# Altium footprint library STM32G4_DRV8301_hardware.PcbLib: 61 footprints (part 1 of 4)
Each footprint in its own frame and in the unit in brackets; x right, y up, seen from the top. Pads: shape width x height; smd on the part's side, far side on the other; paste and mask are expansions set on the pad; w line width, h text height; cw(c..) or ccw(c..) is an arc to the next point about the centre after c.
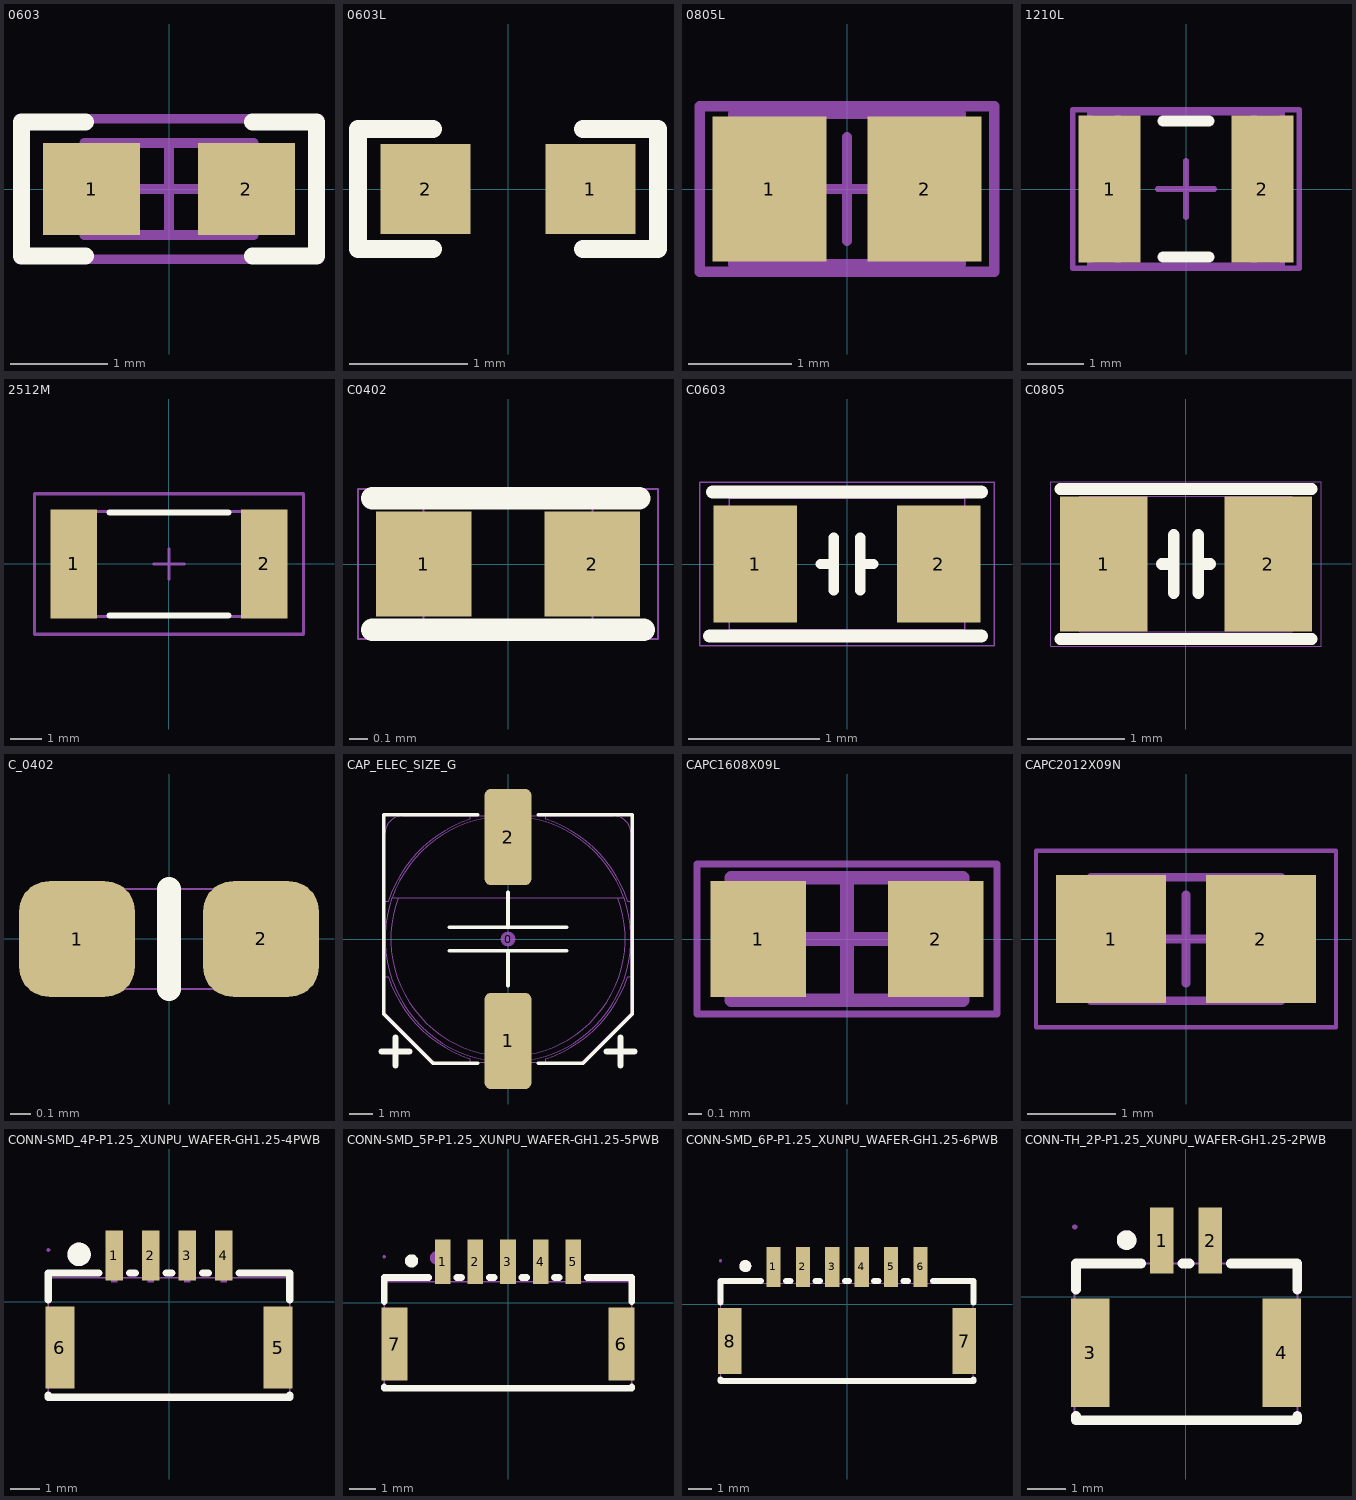
[diagram p0: the footprints below, top view; thin cyan lines are the x and y axes]

## 0603 [mm]
pads (2):
  rect 1x0.95 smd: 1(-0.8,0) 2(0.8,0)
Top Overlay:
  lines w0.178: -0.864,-0.691 -1.524,-0.691 -1.524,0.693 -0.864,0.693 ; 0.864,-0.691 1.524,-0.691 1.524,0.693 0.864,0.693
Mechanical 5:
  lines w0.1: -1.55,-0.725 -1.55,0.725 1.55,0.725 1.55,-0.725 -1.55,-0.725
  text ".Designator" at -1.397,-0.381 h1.5
Mechanical 13:
  lines w0.1: -0.55,-0.475 -0.55,0.475 ; 0.55,-0.475 0.55,0.475 ; -0.875,-0.475 0.875,-0.475 0.875,0.475 -0.875,0.475 -0.875,-0.475
Mechanical 15:
  lines w0.1: -0.475,0 0.475,0 ; 0,-0.475 0,0.475 ; -1.55,-0.725 1.55,-0.725 1.55,0.725 -1.55,0.725 -1.55,-0.725
3D body: height 0.85, standoff 0, extent -0.874,-0.474 -0.551,0.474
3D body: height 0.85, standoff 0, extent -0.549,-0.474 0.549,0.474
3D body: height 0.85, standoff 0, extent 0.551,-0.474 0.874,0.474

## 0603L [mil]
pads (2):
  rect 30x30 smd: 1(27.5,0) 2(-27.5,0)
Top Overlay:
  lines w6: -25,-20 -50,-20 -50,20 -25,20 ; 25,-20 50,-20 50,20 25,20

## 0805L [mm]
pads (2):
  rect 1.1x1.4 smd: 1(-0.75,0) 2(0.75,0)
Mechanical 5:
  lines w0.1: -1.425,-0.8 1.425,-0.8 1.425,0.8 -1.425,0.8 -1.425,-0.8
  text ".Designator" at -1.2,-0.325 h1.5
Mechanical 13:
  lines w0.1: -0.65,-0.725 -0.65,0.725 ; 0.65,-0.725 0.65,0.725 ; -1.1,-0.725 1.1,-0.725 1.1,0.725 -1.1,0.725 -1.1,-0.725
Mechanical 15:
  lines w0.1: -0.5,0 0.5,0 ; 0,-0.5 0,0.5 ; -1.425,-0.8 -1.425,0.8 1.425,0.8 1.425,-0.8 -1.425,-0.8
3D body: height 1.1, standoff 0, extent -1.099,-0.724 -0.651,0.724
3D body: height 1.1, standoff 0, extent -0.649,-0.724 0.649,0.724
3D body: height 1.1, standoff 0, extent 0.651,-0.724 1.099,0.724

## 1210L [mm]
pads (2):
  rect 1.1x2.6 smd: 1(-1.35,0) 2(1.35,0)
Top Overlay:
  lines w0.2: -0.4,-1.2 0.4,-1.2 ; -0.4,1.2 0.4,1.2
Mechanical 5:
  lines w0.1: -1.7,-1.35 -1.7,1.35 1.7,1.35 1.7,-1.35 -1.7,-1.35
  text ".Designator" at -1.4,-0.375 h1.5
Mechanical 13:
  lines w0.1: -1.2,-1.35 -1.2,1.35 ; 1.2,-1.35 1.2,1.35 ; -1.7,-1.35 -1.7,1.35 1.7,1.35 1.7,-1.35 -1.7,-1.35
Mechanical 15:
  lines w0.1: -0.5,0 0.5,0 ; 0,-0.5 0,0.5 ; -2,-1.4 2,-1.4 2,1.4 -2,1.4 -2,-1.4
3D body: height 1.35, standoff 0, extent -1.699,-1.349 -1.201,1.349
3D body: height 1.35, standoff 0, extent -1.199,-1.349 1.199,1.349
3D body: height 1.35, standoff 0, extent 1.201,-1.349 1.699,1.349

## 2512M [mm]
pads (2):
  rect 1.5x3.5 smd: 1(-3.05,0) 2(3.05,0)
Top Overlay:
  lines w0.2: -1.9,-1.65 1.9,-1.65 ; -1.9,1.65 1.9,1.65
Mechanical 5:
  lines w0.1: -3.225,-1.675 3.225,-1.675 3.225,1.675 -3.225,1.675 -3.225,-1.675
  text ".Designator" at -1.85,-0.5 h1.5
Mechanical 13:
  lines w0.1: -2.463,-1.675 -2.463,1.675 ; 2.463,-1.675 2.463,1.675 ; -3.225,-1.675 3.225,-1.675 3.225,1.675 -3.225,1.675 -3.225,-1.675
Mechanical 15:
  lines w0.1: -0.5,0 0.5,0 ; 0,-0.5 0,0.5 ; -4.3,-2.25 4.3,-2.25 4.3,2.25 -4.3,2.25 -4.3,-2.25
3D body: height 0.71, standoff 0, extent -3.224,-1.674 -2.464,1.674
3D body: height 0.71, standoff 0, extent -2.462,-1.674 2.462,1.674
3D body: height 0.71, standoff 0, extent 2.464,-1.674 3.224,1.674

## C0402 [mm]
pads (2):
  rect 0.51x0.56 smd mask+0.05: 1(-0.45,0) 2(0.45,0)
Top Overlay:
  lines w0.12: -0.725,-0.35 0.725,-0.35 ; -0.725,0.35 0.7,0.35
Mechanical 14:
  lines w0.01: -0.45,-0.3 -0.45,0.3 0.45,0.3 0.45,-0.3 -0.45,-0.3
  text "'.Designator'" at -2,-0.5 h1.5
Mechanical 16:
  lines w0.01: -0.8,-0.4 0.8,-0.4 0.8,0.4 -0.8,0.4 -0.8,-0.4
3D body: height 0.4, standoff 0, extent -0.455,-0.305 0.455,0.305
3D body "C0402.STEP": height 0.36, standoff 0, extent -0.5,-0.265 0.5,0.265

## C0603 [mm]
pads (2):
  rect 0.64x0.89 smd mask+0.05: 1(-0.7,0) 2(0.7,0)
Top Overlay:
  lines w0.08: -0.2,0 -0.1,0 ; -0.1,-0.2 -0.1,0.2 ; 0.1,-0.2 0.1,0.2 ; 0.1,0 0.2,0
  lines w0.1: -1.05,-0.55 1.025,-0.55 ; -1.025,0.55 1.025,0.55
Mechanical 14:
  lines w0.01: -0.9,-0.5 0.9,-0.5 0.9,0.5 -0.9,0.5 -0.9,-0.5
  text "'.Designator'" at -2,-0.5 h1.5
Mechanical 16:
  lines w0.01: -1.125,-0.625 -1.125,0.625 1.125,0.625 1.125,-0.625 -1.125,-0.625
3D body: height 1.4, standoff 0, extent -0.899,-0.499 0.899,0.499
3D body "C0603.STEP": height 0.5, standoff 0, extent -0.8,-0.4 0.8,0.4

## C0805 [mm]
pads (2):
  rect 0.9x1.4 smd mask+0.05: 1(-0.85,0) 2(0.85,0)
Top Overlay:
  lines w0.12: -1.3,-0.775 1.3,-0.775 ; -1.3,0.775 1.3,0.775 ; -0.25,0 -0.15,0 ; -0.125,-0.3 -0.125,0.3 ; 0.125,-0.3 0.125,0.3 ; 0.15,0 0.25,0
Mechanical 14:
  lines w0.01: -1.1,-0.7 -1.1,0.7 1.1,0.7 1.1,-0.7 -1.1,-0.7
  text "'.Designator'" at -2,-0.5 h1.5
Mechanical 16:
  lines w0.01: -1.4,-0.85 1.4,-0.85 1.4,0.85 -1.4,0.85 -1.4,-0.85
3D body: height 1.35, standoff 0, extent -1.105,-0.705 1.105,0.705
3D body "C0805_2012D.STEP": height 1.25, standoff 0, extent -1,-0.625 1,0.625

## C_0402 [mm]
pads (2):
  rrect52% 0.58x0.58 smd mask+0.05: 1(-0.46,0) 2(0.46,0)
Top Overlay:
  lines w0.12: 0,-0.25 0,0.25
Mechanical 14:
  lines w0.01: -0.5,-0.25 -0.5,0.25 0.5,0.25 0.5,-0.25 -0.5,-0.25
  text "'.Designator'" at 1.975,-0.125 h1.5
  text "1" at -0.45,-0.225 h1.5
  text "2" at 0.175,-0.225 h1.5
3D body "CAPC1005X55.STEP": height 0.55, standoff 0, extent -0.5,-0.25 0.5,0.25

## CAP_ELEC_SIZE_G [mm]
pads (3):
  round 0.635 on Mech15: 0(0,0)
  rrect25% 2x4.1 smd: 1(0,-4.35) 2(0,4.35)
Top Overlay:
  lines w0.152: -2.5,-0.5 2.5,-0.5 ; -2.5,0.5 2.5,0.5 ; -1.3,-5.3 -3.2,-5.3 -5.3,-3.2 -5.3,5.3 -1.3,5.3 ; 0,-2 0,-0.5 ; 0,0.5 0,2 ; 1.3,-5.3 3.2,-5.3 5.3,-3.2 5.3,5.3 1.3,5.3
  lines w0.254: -5.4,-4.8 -4.2,-4.8 ; -4.8,-5.4 -4.8,-4.2 ; 4.2,-4.8 5.4,-4.8 ; 4.8,-5.4 4.8,-4.2
Mechanical 13:
  lines w0.05: -5.25,-1.601 -5.105,-1.601 ccw(c0,0) -1.601,-5.105 -1.601,-5.25 ; -5.25,1.601 -5.105,1.601 cw(c0,0) -1.601,5.105 -1.601,5.25 ; -4.948,1.75 cw(c0,0) 4.948,1.75 ; -4.684,1.75 ccw(c0,0) 4.684,1.75 ; -0.45,-5.25 -0.45,-6 0.45,-6 0.45,-5.25 ; -0.45,5.25 -0.45,6 0.45,6 0.45,5.25 ; 1.601,-5.25 1.601,-5.105 ccw(c0,0) 5.105,-1.601 5.25,-1.601 ; 1.601,5.25 1.601,5.105 cw(c0,0) 5.105,1.601 5.25,1.601 ; -5.25,-3.15 -5.25,4.5 cw(c-4.5,4.5) -4.5,5.25 4.5,5.25 cw(c4.5,4.5) 5.25,4.5 5.25,-3.15 3.15,-5.25 -3.15,-5.25 -5.25,-3.15 ; -4.95,1.75 ccw(c0,0) 4.95,1.75 -4.95,1.75
3D body "CAP Alum Elec Size G.STEP": height 10.5, standoff 0, extent -5.25,-6 5.25,6

## CAPC1608X09L [mm]
pads (2):
  rect 0.7x0.85 smd: 1(-0.65,0) 2(0.65,0)
Mechanical 13:
  lines w0.1: -0.85,-0.45 -0.85,0.45 0.85,0.45 0.85,-0.45 -0.85,-0.45
Mechanical 15:
  lines w0.05: -1.1,-0.55 -1.1,0.55 1.1,0.55 1.1,-0.55 -1.1,-0.55
  lines w0.1: -0.45,0 0.45,0 ; 0,-0.45 0,0.45
3D body: height 0.9, standoff 0, extent -0.55,-0.45 0.55,0.45
3D body: height 0.9, standoff 0, extent -0.85,-0.45 -0.55,0.45
3D body: height 0.9, standoff 0, extent 0.55,-0.45 0.85,0.45

## CAPC2012X09N [mm]
pads (2):
  rect 1.25x1.45 smd: 1(-0.85,0) 2(0.85,0)
Mechanical 13:
  lines w0.1: -1.075,-0.7 1.075,-0.7 1.075,0.7 -1.075,0.7 -1.075,-0.7
Mechanical 15:
  lines w0.05: -1.7,-1 1.7,-1 1.7,1 -1.7,1 -1.7,-1
  lines w0.1: -0.5,0 0.5,0 ; 0,-0.5 0,0.5
3D body: height 0.95, standoff 0, extent 0.625,-0.7 1.075,0.7
3D body: height 0.95, standoff 0, extent -1.075,-0.7 -0.625,0.7
3D body: height 0.95, standoff 0, extent -0.625,-0.7 0.625,0.7

## CONN-SMD_4P-P1.25_XUNPU_WAFER-GH1.25-4PWB [mm]
pads (6):
  rect 0.6x1.7 smd paste+0 mask+0.05: 1(-1.875,1.575) 2(-0.625,1.575) 3(0.625,1.575) 4(1.875,1.575)
  rect 1x2.8 smd paste+0 mask+0.05: 5(3.725,-1.575) 6(-3.725,-1.575)
Top Overlay:
  circle w0.4: c-3.072,1.613 r0.2
  lines w0.254: -4.125,-3.206 -4.125,-3.272 4.125,-3.272 4.125,-3.206 ; -4.125,0.056 -4.125,0.978 -2.406,0.978 ; -1.344,0.978 -1.156,0.978 ; -0.094,0.978 0.094,0.978 ; 1.156,0.978 1.344,0.978 ; 2.406,0.978 4.125,0.978 4.125,0.056
Mechanical 6:
  circle w0.4: c-3.072,1.613 r0.2
Mechanical 15:
  region: -1.975,1.765 -1.775,1.765 -1.775,0.665 -1.975,0.665
  region: -0.725,1.765 -0.525,1.765 -0.525,0.665 -0.725,0.665
  region: 0.525,1.765 0.725,1.765 0.725,0.665 0.525,0.665
  region: 1.775,1.765 1.975,1.765 1.975,0.665 1.775,0.665
  region: -3.825,-0.775 -3.625,-0.775 -3.625,-2.775 -3.825,-2.775
  region: 3.625,-0.775 3.825,-0.775 3.825,-2.775 3.625,-2.775
  region: -4.065,1.765 -4.065,1.79 -4.1,1.825 -4.15,1.825 -4.185,1.79 -4.185,1.765 -4.185,1.74 -4.15,1.705 -4.1,1.705 -4.065,1.74
  lines w0.051: -4.125,-3.235 -4.125,0.815 4.125,0.815 4.125,-3.235 -4.125,-3.235

## CONN-SMD_5P-P1.25_XUNPU_WAFER-GH1.25-5PWB [mm]
pads (7):
  rect 0.6x1.7 smd paste+0 mask+0.05: 1(-2.5,1.575) 2(-1.25,1.575) 3(0,1.575) 4(1.25,1.575) 5(2.5,1.575)
  rect 1x2.8 smd paste+0 mask+0.05: 6(4.35,-1.575) 7(-4.35,-1.575)
Top Overlay:
  circle w0.254: c-3.697,1.613 r0.127
  lines w0.254: -4.75,-3.206 -4.75,-3.272 4.75,-3.272 4.75,-3.206 ; -4.75,0.056 -4.75,0.978 -3.031,0.978 ; -1.969,0.978 -1.781,0.978 ; -0.719,0.978 -0.531,0.978 ; 0.531,0.978 0.719,0.978 ; 1.781,0.978 1.969,0.978 ; 3.031,0.978 4.75,0.978 4.75,0.056
Mechanical 6:
  circle w0.254: c-2.741,1.73 r0.127
Mechanical 15:
  region: 4.25,-0.575 4.45,-0.575 4.45,-2.575 4.25,-2.575
  region: -4.45,-0.575 -4.25,-0.575 -4.25,-2.575 -4.45,-2.575
  region: 1.15,1.771 1.35,1.771 1.35,0.771 1.15,0.771
  region: -0.1,1.771 0.1,1.771 0.1,0.771 -0.1,0.771
  region: -1.35,1.771 -1.15,1.771 -1.15,0.771 -1.35,0.771
  region: -2.6,1.771 -2.4,1.771 -2.4,0.771 -2.6,0.771
  region: 2.4,1.771 2.6,1.771 2.6,0.771 2.4,0.771
  region: -4.69,1.771 -4.69,1.796 -4.725,1.831 -4.775,1.831 -4.81,1.796 -4.81,1.771 -4.81,1.746 -4.775,1.711 -4.725,1.711 -4.69,1.746
  lines w0.051: -4.75,-3.229 4.75,-3.229 4.75,0.821 -4.75,0.821 -4.75,-3.229

## CONN-SMD_6P-P1.25_XUNPU_WAFER-GH1.25-6PWB [mm]
pads (8):
  rect 0.6x1.7 smd paste+0 mask+0.05: 1(-3.125,1.575) 2(-1.875,1.575) 3(-0.625,1.575) 4(0.625,1.575) 5(1.875,1.575) 6(3.125,1.575)
  rect 1x2.8 smd paste+0 mask+0.05: 7(4.975,-1.575) 8(-4.975,-1.575)
Top Overlay:
  circle w0.254: c-4.322,1.613 r0.127
  lines w0.254: -5.375,-3.206 -5.375,-3.272 5.375,-3.272 5.375,-3.206 ; -5.375,0.056 -5.375,0.978 -3.656,0.978 ; -2.594,0.978 -2.406,0.978 ; -1.344,0.978 -1.156,0.978 ; -0.094,0.978 0.094,0.978 ; 1.156,0.978 1.344,0.978 ; 2.406,0.978 2.594,0.978 ; 3.656,0.978 5.375,0.978 5.375,0.056
Mechanical 6:
  circle w0.254: c-4.322,1.613 r0.127
Mechanical 15:
  region: -5.075,-0.575 -4.875,-0.575 -4.875,-2.575 -5.075,-2.575
  region: 4.875,-0.575 5.075,-0.575 5.075,-2.575 4.875,-2.575
  region: 0.525,1.835 0.725,1.835 0.725,0.835 0.525,0.835
  region: -0.725,1.835 -0.525,1.835 -0.525,0.835 -0.725,0.835
  region: -1.975,1.835 -1.775,1.835 -1.775,0.835 -1.975,0.835
  region: -3.225,1.835 -3.025,1.835 -3.025,0.835 -3.225,0.835
  region: 1.775,1.835 1.975,1.835 1.975,0.835 1.775,0.835
  region: 3.025,1.835 3.225,1.835 3.225,0.835 3.025,0.835
  region: -5.315,1.835 -5.315,1.86 -5.35,1.895 -5.4,1.895 -5.435,1.86 -5.435,1.835 -5.435,1.81 -5.4,1.775 -5.35,1.775 -5.315,1.81
  lines w0.051: -5.375,-3.165 5.375,-3.165 5.375,0.885 -5.375,0.885 -5.375,-3.165

## CONN-TH_2P-P1.25_XUNPU_WAFER-GH1.25-2PWB [mm]
pads (4):
  rect 0.6x1.7 smd paste+0 mask+0.05: 1(-0.625,1.45) 2(0.625,1.45)
  rect 1x2.8 smd paste+0 mask+0.05: 3(-2.475,-1.45) 4(2.475,-1.45)
Top Overlay:
  circle w0.254: c-1.535,1.46 r0.127
  lines w0.254: -2.838,-3.081 -2.838,-3.195 2.875,-3.195 2.875,-3.081 ; -2.838,0.181 -2.838,0.853 -1.156,0.853 ; -0.094,0.853 0.094,0.853 ; 1.156,0.853 2.875,0.853 2.875,0.181
Mechanical 6:
  circle w0.254: c-1.535,1.46 r0.127
Mechanical 15:
  region: 0.525,1.803 0.725,1.803 0.725,0.803 0.525,0.803
  region: -0.725,1.803 -0.525,1.803 -0.525,0.803 -0.725,0.803
  region: 2.375,-0.45 2.575,-0.45 2.575,-2.45 2.375,-2.45
  region: -2.575,-0.45 -2.375,-0.45 -2.375,-2.45 -2.575,-2.45
  region: -2.815,1.803 -2.815,1.828 -2.85,1.863 -2.9,1.863 -2.935,1.828 -2.935,1.803 -2.935,1.778 -2.9,1.743 -2.85,1.743 -2.815,1.778
  lines w0.051: -2.875,-3.197 -2.875,0.853 2.875,0.853 2.875,-3.197 -2.875,-3.197